# EAGLE library part C-2301E (library cls)
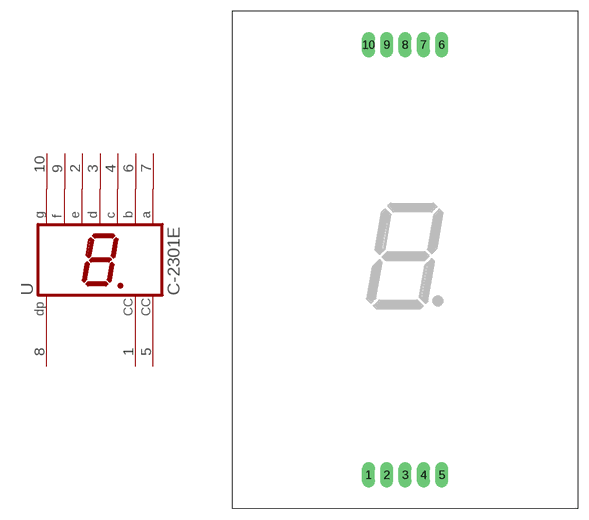
[diagram p16: symbol with the pads of C-2301E; footprint C-2301E]

Designator prefix -

## C-2301EE  [C-2301E]
1  CC  pas
2  E  pas
3  D  pas
4  C  pas
5  CC  pas
6  B  pas
7  A  pas
8  DP  pas
9  F  pas
10  G  pas

## Footprint C-2301E (pad centres in mm)
drill 0.5 pad 1.778 long: 1 -5.08,-30.48; 2 -2.54,-30.48; 3 0,-30.48; 4 2.54,-30.48; 5 5.08,-30.48; 6 5.08,29.21; 7 2.54,29.21; 8 0,29.21; 9 -2.54,29.21; 10 -5.08,29.21